# Altium schematic symbol library BQ24232HRGTR.SchLib: 2 symbols
Pins are listed as number, name and electrical type; pins without a type are passive.

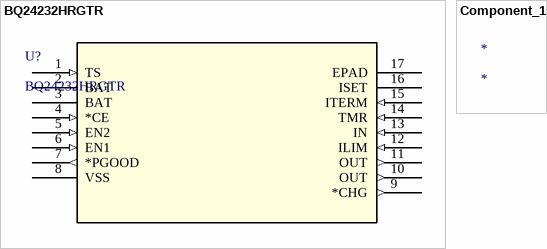
[diagram p0: symbols BQ24232HRGTR to Component_1]

## BQ24232HRGTR
designator U?
No Description Available; Mfr_Name: Texas Instruments; Copyright: Copyright (C) 2023 Ultra Librarian. All rights reserved.; Manufacturer_Part_Number: BQ24232HRGTR; RefDes: RefDes; Type: DEV
footprint RGT16_1P7X1P7_TEX
pins: 1 TS (in), 2 BAT, 3 BAT, 4 *CE (in), 5 EN2 (in), 6 EN1 (in), 7 *PGOOD (out), 8 VSS (power), 9 *CHG (out), 10 OUT (out), 11 OUT (out), 12 ILIM (in), 13 IN (in), 14 TMR (in), 15 ITERM (in), 16 ISET, 17 EPAD (power)

## Component_1
designator *